# EAGLE library part LM2665 (library bt_regulator)
LM2665 - Switched Capacitor Voltage Converter The LM2665 CMOS charge-pump voltage converter operates as a voltage doubler for an input voltage in the range of 2.5 V to 5.5 V. Two low-cost capacitors and a diode (needed during start-up) are used in this circuit to provide up to 40 mA of output current. The LM2665 can also work as a voltage divider to split a voltage in the range of 1.8 V to 11 V in half. The LM2665 operates at 160-kHz oscillator frequency to reduce output resistance and voltage ripple. With an operating current of only 650 μA (operating efficiency greater than 90% with most loads) and 1-μA typical shutdown current, the LM2665 provides ideal performance for battery powered systems.
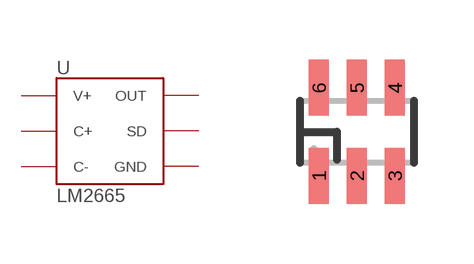
[diagram p8: symbol with the pads of SOT23-6; footprint SOT23-6]

Designator prefix U

## LM2665  [SOT23-6]
1  V+  pwr
2  GND
3  C-
4  SD
5  OUT  pwr
6  C+

## Footprint SOT23-6 (pad centres in mm)
SOT23-6 package This is the DBV6 package from Texas Instruments. It differs from the one in the Eagle libraries (there are two versions in ref-packages.lbr) in that the pad dimensions are 0.5mm x 1.4mm, as in the TI recommendation. The pin spacing is 0.95mm, and the package body has nominal dimensions 2.9mm long by 1.6mm wide.
smd 0.5 x 1.4: 1 -0.95,-1.1; 2 0,-1.1; 3 0.95,-1.1; 4 0.95,1.1; 5 0,1.1; 6 -0.95,1.1